# Altium footprint library XTAL-7x5.PcbLib: 1 footprints
Each footprint in its own frame and in the unit in brackets; x right, y up, seen from the top. Pads: shape width x height; smd on the part's side, far side on the other; paste and mask are expansions set on the pad; w line width, h text height; cw(c..) or ccw(c..) is an arc to the next point about the centre after c.
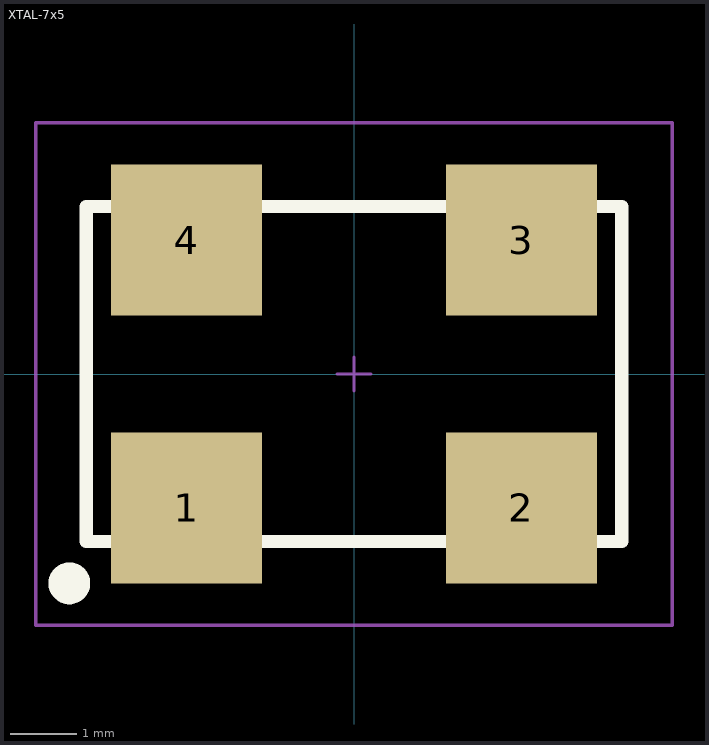
[diagram p0: the footprint, top view; thin cyan lines are the x and y axes]

## XTAL-7x5 [mil] "Oscillator"
pads (4):
  rect 90x90 smd: 1(-100,-80) 2(100,-80) 3(100,80) 4(-100,80)
Top Overlay:
  circle w15: c-170,-125 r5
  lines w8: -160,-100 160,-100 160,100 -160,100 -160,-100
Mechanical 15:
  lines w1.97: -10,0 10,0 ; 0,-10 0,10 ; -190,-150 -190,150 190,150 190,-150 -190,-150
3D body: height 55.12, standoff 0, extent -159.98,-99.98 159.98,99.98